# Altium footprint library Connector_Molex.PcbLib: 815 footprints (part 2 of 51)
Each footprint in its own frame and in the unit in brackets; x right, y up, seen from the top. Pads: shape width x height; smd on the part's side, far side on the other; paste and mask are expansions set on the pad; w line width, h text height; cw(c..) or ccw(c..) is an arc to the next point about the centre after c.
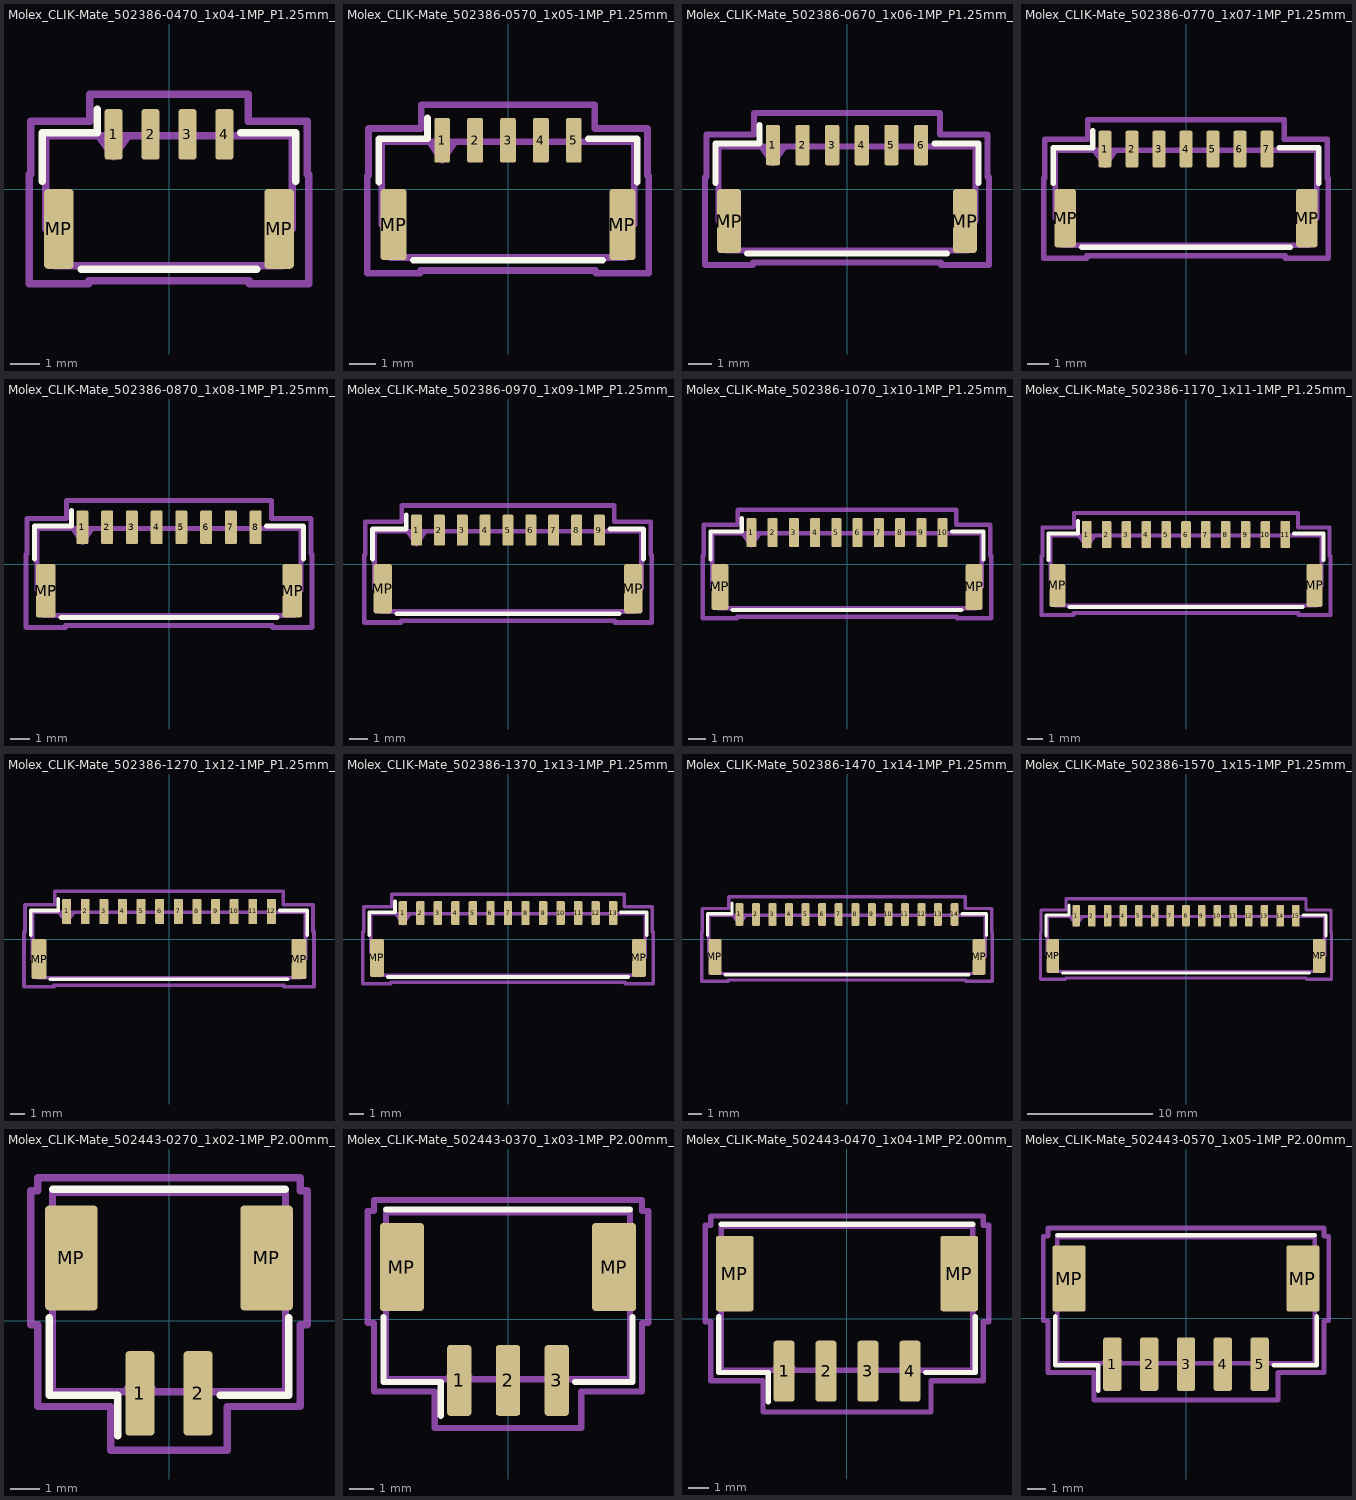
[diagram p1: the footprints below, top view; thin cyan lines are the x and y axes]

## Molex_CLIK-Mate_502386-0470_1x04-1MP_P1.25mm_Horizontal [mm]
pads (6):
  rrect25% 0.6x1.7 smd: 1(-1.875,1.85) 2(-0.625,1.85) 3(0.625,1.85) 4(1.875,1.85)
  rrect25% 1x2.7 smd: MP(-3.725,-1.35) MP(3.725,-1.35)
F.SilkS:
  lines w0.254: -4.285,0.26 -4.285,1.91 -2.435,1.91 -2.435,2.7 ; -2.965,-2.71 2.965,-2.71 ; 2.435,1.91 4.285,1.91 4.285,0.26
Top Assembly:
  lines w0.254: -2.375,1.8 -1.875,1.093 -1.375,1.8 ; -4.175,-1.35 -3.845,-1.35 -3.845,-2.6 3.845,-2.6 3.845,-1.35 4.175,-1.35 4.175,1.8 -4.175,1.8 -4.175,-1.35
  text "'.Designator'" at -4.047,-0.62 h1
Top Courtyard:
  lines w0.254: -4.73,-3.2 -2.72,-3.2 -2.72,-3.1 2.72,-3.1 2.72,-3.2 4.73,-3.2 4.73,0.5 4.68,0.5 4.68,2.3 2.68,2.3 2.68,3.2 -2.68,3.2 -2.68,2.3 -4.68,2.3 -4.68,0.5 -4.73,0.5 -4.73,-3.2
Top Designator:
  text ".Designator" at -7.618,-0.508 h1.52

## Molex_CLIK-Mate_502386-0570_1x05-1MP_P1.25mm_Horizontal [mm]
pads (7):
  rrect25% 0.6x1.7 smd: 1(-2.5,1.85) 2(-1.25,1.85) 3(0,1.85) 4(1.25,1.85) 5(2.5,1.85)
  rrect25% 1x2.7 smd: MP(-4.35,-1.35) MP(4.35,-1.35)
F.SilkS:
  lines w0.254: -4.91,0.26 -4.91,1.91 -3.06,1.91 -3.06,2.7 ; -3.59,-2.71 3.59,-2.71 ; 3.06,1.91 4.91,1.91 4.91,0.26
Top Assembly:
  lines w0.254: -3,1.8 -2.5,1.093 -2,1.8 ; -4.8,-1.35 -4.47,-1.35 -4.47,-2.6 4.47,-2.6 4.47,-1.35 4.8,-1.35 4.8,1.8 -4.8,1.8 -4.8,-1.35
  text "'.Designator'" at -4.047,-0.62 h1
Top Courtyard:
  lines w0.254: -5.35,-3.2 -3.34,-3.2 -3.34,-3.1 3.34,-3.1 3.34,-3.2 5.35,-3.2 5.35,0.5 5.3,0.5 5.3,2.3 3.3,2.3 3.3,3.2 -3.3,3.2 -3.3,2.3 -5.3,2.3 -5.3,0.5 -5.35,0.5 -5.35,-3.2
Top Designator:
  text ".Designator" at -7.618,-0.508 h1.52

## Molex_CLIK-Mate_502386-0670_1x06-1MP_P1.25mm_Horizontal [mm]
pads (8):
  rrect25% 0.6x1.7 smd: 1(-3.125,1.85) 2(-1.875,1.85) 3(-0.625,1.85) 4(0.625,1.85) 5(1.875,1.85) 6(3.125,1.85)
  rrect25% 1x2.7 smd: MP(-4.975,-1.35) MP(4.975,-1.35)
F.SilkS:
  lines w0.254: -5.535,0.26 -5.535,1.91 -3.685,1.91 -3.685,2.7 ; -4.215,-2.71 4.215,-2.71 ; 3.685,1.91 5.535,1.91 5.535,0.26
Top Assembly:
  lines w0.254: -3.625,1.8 -3.125,1.093 -2.625,1.8 ; -5.425,-1.35 -5.095,-1.35 -5.095,-2.6 5.095,-2.6 5.095,-1.35 5.425,-1.35 5.425,1.8 -5.425,1.8 -5.425,-1.35
  text "'.Designator'" at -4.047,-0.62 h1
Top Courtyard:
  lines w0.254: -5.98,-3.2 -3.97,-3.2 -3.97,-3.1 3.97,-3.1 3.97,-3.2 5.98,-3.2 5.98,0.5 5.93,0.5 5.93,2.3 3.93,2.3 3.93,3.2 -3.93,3.2 -3.93,2.3 -5.93,2.3 -5.93,0.5 -5.98,0.5 -5.98,-3.2
Top Designator:
  text ".Designator" at -7.618,-0.508 h1.52

## Molex_CLIK-Mate_502386-0770_1x07-1MP_P1.25mm_Horizontal [mm]
pads (9):
  rrect25% 0.6x1.7 smd: 1(-3.75,1.85) 2(-2.5,1.85) 3(-1.25,1.85) 4(0,1.85) 5(1.25,1.85) 6(2.5,1.85) 7(3.75,1.85)
  rrect25% 1x2.7 smd: MP(-5.6,-1.35) MP(5.6,-1.35)
F.SilkS:
  lines w0.254: -6.16,0.26 -6.16,1.91 -4.31,1.91 -4.31,2.7 ; -4.84,-2.71 4.84,-2.71 ; 4.31,1.91 6.16,1.91 6.16,0.26
Top Assembly:
  lines w0.254: -4.25,1.8 -3.75,1.093 -3.25,1.8 ; -6.05,-1.35 -5.72,-1.35 -5.72,-2.6 5.72,-2.6 5.72,-1.35 6.05,-1.35 6.05,1.8 -6.05,1.8 -6.05,-1.35
  text "'.Designator'" at -4.047,-0.62 h1
Top Courtyard:
  lines w0.254: -6.6,-3.2 -4.6,-3.2 -4.6,-3.1 4.6,-3.1 4.6,-3.2 6.6,-3.2 6.6,0.5 6.55,0.5 6.55,2.3 4.55,2.3 4.55,3.2 -4.55,3.2 -4.55,2.3 -6.55,2.3 -6.55,0.5 -6.6,0.5 -6.6,-3.2
Top Designator:
  text ".Designator" at -7.618,-0.508 h1.52

## Molex_CLIK-Mate_502386-0870_1x08-1MP_P1.25mm_Horizontal [mm]
pads (10):
  rrect25% 0.6x1.7 smd: 1(-4.375,1.85) 2(-3.125,1.85) 3(-1.875,1.85) 4(-0.625,1.85) 5(0.625,1.85) 6(1.875,1.85) 7(3.125,1.85) 8(4.375,1.85)
  rrect25% 1x2.7 smd: MP(-6.225,-1.35) MP(6.225,-1.35)
F.SilkS:
  lines w0.254: -6.785,0.26 -6.785,1.91 -4.935,1.91 -4.935,2.7 ; -5.465,-2.71 5.465,-2.71 ; 4.935,1.91 6.785,1.91 6.785,0.26
Top Assembly:
  lines w0.254: -4.875,1.8 -4.375,1.093 -3.875,1.8 ; -6.675,-1.35 -6.345,-1.35 -6.345,-2.6 6.345,-2.6 6.345,-1.35 6.675,-1.35 6.675,1.8 -6.675,1.8 -6.675,-1.35
  text "'.Designator'" at -4.047,-0.62 h1
Top Courtyard:
  lines w0.254: -7.23,-3.2 -5.22,-3.2 -5.22,-3.1 5.22,-3.1 5.22,-3.2 7.23,-3.2 7.23,0.5 7.18,0.5 7.18,2.3 5.18,2.3 5.18,3.2 -5.18,3.2 -5.18,2.3 -7.18,2.3 -7.18,0.5 -7.23,0.5 -7.23,-3.2
Top Designator:
  text ".Designator" at -7.618,-0.508 h1.52

## Molex_CLIK-Mate_502386-0970_1x09-1MP_P1.25mm_Horizontal [mm]
pads (11):
  rrect25% 0.6x1.7 smd: 1(-5,1.85) 2(-3.75,1.85) 3(-2.5,1.85) 4(-1.25,1.85) 5(0,1.85) 6(1.25,1.85) 7(2.5,1.85) 8(3.75,1.85) 9(5,1.85)
  rrect25% 1x2.7 smd: MP(-6.85,-1.35) MP(6.85,-1.35)
F.SilkS:
  lines w0.254: -7.41,0.26 -7.41,1.91 -5.56,1.91 -5.56,2.7 ; -6.09,-2.71 6.09,-2.71 ; 5.56,1.91 7.41,1.91 7.41,0.26
Top Assembly:
  lines w0.254: -5.5,1.8 -5,1.093 -4.5,1.8 ; -7.3,-1.35 -6.97,-1.35 -6.97,-2.6 6.97,-2.6 6.97,-1.35 7.3,-1.35 7.3,1.8 -7.3,1.8 -7.3,-1.35
  text "'.Designator'" at -4.047,-0.62 h1
Top Courtyard:
  lines w0.254: -7.85,-3.2 -5.85,-3.2 -5.85,-3.1 5.85,-3.1 5.85,-3.2 7.85,-3.2 7.85,0.5 7.8,0.5 7.8,2.3 5.8,2.3 5.8,3.2 -5.8,3.2 -5.8,2.3 -7.8,2.3 -7.8,0.5 -7.85,0.5 -7.85,-3.2
Top Designator:
  text ".Designator" at -7.618,-0.508 h1.52

## Molex_CLIK-Mate_502386-1070_1x10-1MP_P1.25mm_Horizontal [mm]
pads (12):
  rrect25% 0.6x1.7 smd: 1(-5.625,1.85) 2(-4.375,1.85) 3(-3.125,1.85) 4(-1.875,1.85) 5(-0.625,1.85) 6(0.625,1.85) 7(1.875,1.85) 8(3.125,1.85) 9(4.375,1.85) 10(5.625,1.85)
  rrect25% 1x2.7 smd: MP(-7.475,-1.35) MP(7.475,-1.35)
F.SilkS:
  lines w0.254: -8.035,0.26 -8.035,1.91 -6.185,1.91 -6.185,2.7 ; -6.715,-2.71 6.715,-2.71 ; 6.185,1.91 8.035,1.91 8.035,0.26
Top Assembly:
  lines w0.254: -6.125,1.8 -5.625,1.093 -5.125,1.8 ; -7.925,-1.35 -7.595,-1.35 -7.595,-2.6 7.595,-2.6 7.595,-1.35 7.925,-1.35 7.925,1.8 -7.925,1.8 -7.925,-1.35
  text "'.Designator'" at -4.047,-0.62 h1
Top Courtyard:
  lines w0.254: -8.48,-3.2 -6.47,-3.2 -6.47,-3.1 6.47,-3.1 6.47,-3.2 8.48,-3.2 8.48,0.5 8.43,0.5 8.43,2.3 6.43,2.3 6.43,3.2 -6.43,3.2 -6.43,2.3 -8.43,2.3 -8.43,0.5 -8.48,0.5 -8.48,-3.2
Top Designator:
  text ".Designator" at -7.618,-0.508 h1.52

## Molex_CLIK-Mate_502386-1170_1x11-1MP_P1.25mm_Horizontal [mm]
pads (13):
  rrect25% 0.6x1.7 smd: 1(-6.25,1.85) 2(-5,1.85) 3(-3.75,1.85) 4(-2.5,1.85) 5(-1.25,1.85) 6(0,1.85) 7(1.25,1.85) 8(2.5,1.85) 9(3.75,1.85) 10(5,1.85) 11(6.25,1.85)
  rrect25% 1x2.7 smd: MP(-8.1,-1.35) MP(8.1,-1.35)
F.SilkS:
  lines w0.254: -8.66,0.26 -8.66,1.91 -6.81,1.91 -6.81,2.7 ; -7.34,-2.71 7.34,-2.71 ; 6.81,1.91 8.66,1.91 8.66,0.26
Top Assembly:
  lines w0.254: -6.75,1.8 -6.25,1.093 -5.75,1.8 ; -8.55,-1.35 -8.22,-1.35 -8.22,-2.6 8.22,-2.6 8.22,-1.35 8.55,-1.35 8.55,1.8 -8.55,1.8 -8.55,-1.35
  text "'.Designator'" at -4.047,-0.62 h1
Top Courtyard:
  lines w0.254: -9.1,-3.2 -7.1,-3.2 -7.1,-3.1 7.1,-3.1 7.1,-3.2 9.1,-3.2 9.1,0.5 9.05,0.5 9.05,2.3 7.05,2.3 7.05,3.2 -7.05,3.2 -7.05,2.3 -9.05,2.3 -9.05,0.5 -9.1,0.5 -9.1,-3.2
Top Designator:
  text ".Designator" at -7.618,-0.508 h1.52

## Molex_CLIK-Mate_502386-1270_1x12-1MP_P1.25mm_Horizontal [mm]
pads (14):
  rrect25% 0.6x1.7 smd: 1(-6.875,1.85) 2(-5.625,1.85) 3(-4.375,1.85) 4(-3.125,1.85) 5(-1.875,1.85) 6(-0.625,1.85) 7(0.625,1.85) 8(1.875,1.85) 9(3.125,1.85) 10(4.375,1.85) 11(5.625,1.85) 12(6.875,1.85)
  rrect25% 1x2.7 smd: MP(-8.725,-1.35) MP(8.725,-1.35)
F.SilkS:
  lines w0.254: -9.285,0.26 -9.285,1.91 -7.435,1.91 -7.435,2.7 ; -7.965,-2.71 7.965,-2.71 ; 7.435,1.91 9.285,1.91 9.285,0.26
Top Assembly:
  lines w0.254: -7.375,1.8 -6.875,1.093 -6.375,1.8 ; -9.175,-1.35 -8.845,-1.35 -8.845,-2.6 8.845,-2.6 8.845,-1.35 9.175,-1.35 9.175,1.8 -9.175,1.8 -9.175,-1.35
  text "'.Designator'" at -4.047,-0.62 h1
Top Courtyard:
  lines w0.254: -9.73,-3.2 -7.72,-3.2 -7.72,-3.1 7.72,-3.1 7.72,-3.2 9.73,-3.2 9.73,0.5 9.68,0.5 9.68,2.3 7.68,2.3 7.68,3.2 -7.68,3.2 -7.68,2.3 -9.68,2.3 -9.68,0.5 -9.73,0.5 -9.73,-3.2
Top Designator:
  text ".Designator" at -7.618,-0.508 h1.52

## Molex_CLIK-Mate_502386-1370_1x13-1MP_P1.25mm_Horizontal [mm]
pads (15):
  rrect25% 0.6x1.7 smd: 1(-7.5,1.85) 2(-6.25,1.85) 3(-5,1.85) 4(-3.75,1.85) 5(-2.5,1.85) 6(-1.25,1.85) 7(0,1.85) 8(1.25,1.85) 9(2.5,1.85) 10(3.75,1.85) 11(5,1.85) 12(6.25,1.85) 13(7.5,1.85)
  rrect25% 1x2.7 smd: MP(-9.35,-1.35) MP(9.35,-1.35)
F.SilkS:
  lines w0.254: -9.91,0.26 -9.91,1.91 -8.06,1.91 -8.06,2.7 ; -8.59,-2.71 8.59,-2.71 ; 8.06,1.91 9.91,1.91 9.91,0.26
Top Assembly:
  lines w0.254: -8,1.8 -7.5,1.093 -7,1.8 ; -9.8,-1.35 -9.47,-1.35 -9.47,-2.6 9.47,-2.6 9.47,-1.35 9.8,-1.35 9.8,1.8 -9.8,1.8 -9.8,-1.35
  text "'.Designator'" at -4.047,-0.62 h1
Top Courtyard:
  lines w0.254: -10.35,-3.2 -8.35,-3.2 -8.35,-3.1 8.35,-3.1 8.35,-3.2 10.35,-3.2 10.35,0.5 10.3,0.5 10.3,2.3 8.3,2.3 8.3,3.2 -8.3,3.2 -8.3,2.3 -10.3,2.3 -10.3,0.5 -10.35,0.5 -10.35,-3.2
Top Designator:
  text ".Designator" at -7.618,-0.508 h1.52

## Molex_CLIK-Mate_502386-1470_1x14-1MP_P1.25mm_Horizontal [mm]
pads (16):
  rrect25% 0.6x1.7 smd: 1(-8.125,1.85) 2(-6.875,1.85) 3(-5.625,1.85) 4(-4.375,1.85) 5(-3.125,1.85) 6(-1.875,1.85) 7(-0.625,1.85) 8(0.625,1.85) 9(1.875,1.85) 10(3.125,1.85) 11(4.375,1.85) 12(5.625,1.85) 13(6.875,1.85) 14(8.125,1.85)
  rrect25% 1x2.7 smd: MP(-9.975,-1.35) MP(9.975,-1.35)
F.SilkS:
  lines w0.254: -10.535,0.26 -10.535,1.91 -8.685,1.91 -8.685,2.7 ; -9.215,-2.71 9.215,-2.71 ; 8.685,1.91 10.535,1.91 10.535,0.26
Top Assembly:
  lines w0.254: -8.625,1.8 -8.125,1.093 -7.625,1.8 ; -10.425,-1.35 -10.095,-1.35 -10.095,-2.6 10.095,-2.6 10.095,-1.35 10.425,-1.35 10.425,1.8 -10.425,1.8 -10.425,-1.35
  text "'.Designator'" at -4.047,-0.62 h1
Top Courtyard:
  lines w0.254: -10.98,-3.2 -8.97,-3.2 -8.97,-3.1 8.97,-3.1 8.97,-3.2 10.98,-3.2 10.98,0.5 10.93,0.5 10.93,2.3 8.93,2.3 8.93,3.2 -8.93,3.2 -8.93,2.3 -10.93,2.3 -10.93,0.5 -10.98,0.5 -10.98,-3.2
Top Designator:
  text ".Designator" at -7.618,-0.508 h1.52

## Molex_CLIK-Mate_502386-1570_1x15-1MP_P1.25mm_Horizontal [mm]
pads (17):
  rrect25% 0.6x1.7 smd: 1(-8.75,1.85) 2(-7.5,1.85) 3(-6.25,1.85) 4(-5,1.85) 5(-3.75,1.85) 6(-2.5,1.85) 7(-1.25,1.85) 8(0,1.85) 9(1.25,1.85) 10(2.5,1.85) 11(3.75,1.85) 12(5,1.85) 13(6.25,1.85) 14(7.5,1.85) 15(8.75,1.85)
  rrect25% 1x2.7 smd: MP(-10.6,-1.35) MP(10.6,-1.35)
F.SilkS:
  lines w0.254: -11.16,0.26 -11.16,1.91 -9.31,1.91 -9.31,2.7 ; -9.84,-2.71 9.84,-2.71 ; 9.31,1.91 11.16,1.91 11.16,0.26
Top Assembly:
  lines w0.254: -9.25,1.8 -8.75,1.093 -8.25,1.8 ; -11.05,-1.35 -10.72,-1.35 -10.72,-2.6 10.72,-2.6 10.72,-1.35 11.05,-1.35 11.05,1.8 -11.05,1.8 -11.05,-1.35
  text "'.Designator'" at -4.047,-0.62 h1
Top Courtyard:
  lines w0.254: -11.6,-3.2 -9.6,-3.2 -9.6,-3.1 9.6,-3.1 9.6,-3.2 11.6,-3.2 11.6,0.5 11.55,0.5 11.55,2.3 9.55,2.3 9.55,3.2 -9.55,3.2 -9.55,2.3 -11.55,2.3 -11.55,0.5 -11.6,0.5 -11.6,-3.2
Top Designator:
  text ".Designator" at -7.618,-0.508 h1.52

## Molex_CLIK-Mate_502443-0270_1x02-1MP_P2.00mm_Vertical [mm]
pads (4):
  rrect25% 1x2.9 smd: 1(-1,-2.5) 2(1,-2.5)
  rrect14% 1.8x3.6 smd: MP(-3.35,2.15) MP(3.35,2.15)
F.SilkS:
  lines w0.254: -4.11,0.09 -4.11,-2.56 -1.76,-2.56 -1.76,-3.95 ; -4,4.51 4,4.51 ; 1.76,-2.56 4.11,-2.56 4.11,0.09
Top Assembly:
  lines w0.254: -1.5,-2.45 -1,-1.743 -0.5,-2.45 ; -4,-2.45 4,-2.45 4,4.4 -4,4.4 -4,-2.45
  text "'.Designator'" at -4.047,0.14 h1
Top Courtyard:
  lines w0.254: -4.75,-0.15 -4.5,-0.15 -4.5,-2.95 -2,-2.95 -2,-4.45 2,-4.45 2,-2.95 4.5,-2.95 4.5,-0.15 4.75,-0.15 4.75,4.45 4.5,4.45 4.5,4.9 -4.5,4.9 -4.5,4.45 -4.75,4.45 -4.75,-0.15
Top Designator:
  text ".Designator" at -7.618,-0.283 h1.52

## Molex_CLIK-Mate_502443-0370_1x03-1MP_P2.00mm_Vertical [mm]
pads (5):
  rrect25% 1x2.9 smd: 1(-2,-2.5) 2(0,-2.5) 3(2,-2.5)
  rrect14% 1.8x3.6 smd: MP(-4.35,2.15) MP(4.35,2.15)
F.SilkS:
  lines w0.254: -5.11,0.09 -5.11,-2.56 -2.76,-2.56 -2.76,-3.95 ; -5,4.51 5,4.51 ; 2.76,-2.56 5.11,-2.56 5.11,0.09
Top Assembly:
  lines w0.254: -2.5,-2.45 -2,-1.743 -1.5,-2.45 ; -5,-2.45 5,-2.45 5,4.4 -5,4.4 -5,-2.45
  text "'.Designator'" at -4.047,0.14 h1
Top Courtyard:
  lines w0.254: -5.75,-0.15 -5.5,-0.15 -5.5,-2.95 -3,-2.95 -3,-4.45 3,-4.45 3,-2.95 5.5,-2.95 5.5,-0.15 5.75,-0.15 5.75,4.45 5.5,4.45 5.5,4.9 -5.5,4.9 -5.5,4.45 -5.75,4.45 -5.75,-0.15
Top Designator:
  text ".Designator" at -7.618,-0.283 h1.52

## Molex_CLIK-Mate_502443-0470_1x04-1MP_P2.00mm_Vertical [mm]
pads (6):
  rrect25% 1x2.9 smd: 1(-3,-2.5) 2(-1,-2.5) 3(1,-2.5) 4(3,-2.5)
  rrect14% 1.8x3.6 smd: MP(-5.35,2.15) MP(5.35,2.15)
F.SilkS:
  lines w0.254: -6.11,0.09 -6.11,-2.56 -3.76,-2.56 -3.76,-3.95 ; -6,4.51 6,4.51 ; 3.76,-2.56 6.11,-2.56 6.11,0.09
Top Assembly:
  lines w0.254: -3.5,-2.45 -3,-1.743 -2.5,-2.45 ; -6,-2.45 6,-2.45 6,4.4 -6,4.4 -6,-2.45
  text "'.Designator'" at -4.047,0.14 h1
Top Courtyard:
  lines w0.254: -6.75,-0.15 -6.5,-0.15 -6.5,-2.95 -4,-2.95 -4,-4.45 4,-4.45 4,-2.95 6.5,-2.95 6.5,-0.15 6.75,-0.15 6.75,4.45 6.5,4.45 6.5,4.9 -6.5,4.9 -6.5,4.45 -6.75,4.45 -6.75,-0.15
Top Designator:
  text ".Designator" at -7.618,-0.283 h1.52

## Molex_CLIK-Mate_502443-0570_1x05-1MP_P2.00mm_Vertical [mm]
pads (7):
  rrect25% 1x2.9 smd: 1(-4,-2.5) 2(-2,-2.5) 3(0,-2.5) 4(2,-2.5) 5(4,-2.5)
  rrect14% 1.8x3.6 smd: MP(-6.35,2.15) MP(6.35,2.15)
F.SilkS:
  lines w0.254: -7.11,0.09 -7.11,-2.56 -4.76,-2.56 -4.76,-3.95 ; -7,4.51 7,4.51 ; 4.76,-2.56 7.11,-2.56 7.11,0.09
Top Assembly:
  lines w0.254: -4.5,-2.45 -4,-1.743 -3.5,-2.45 ; -7,-2.45 7,-2.45 7,4.4 -7,4.4 -7,-2.45
  text "'.Designator'" at -4.047,0.14 h1
Top Courtyard:
  lines w0.254: -7.75,-0.15 -7.5,-0.15 -7.5,-2.95 -5,-2.95 -5,-4.45 5,-4.45 5,-2.95 7.5,-2.95 7.5,-0.15 7.75,-0.15 7.75,4.45 7.5,4.45 7.5,4.9 -7.5,4.9 -7.5,4.45 -7.75,4.45 -7.75,-0.15
Top Designator:
  text ".Designator" at -7.618,-0.283 h1.52